# EAGLE library part HMC1053 (library paparazzi)
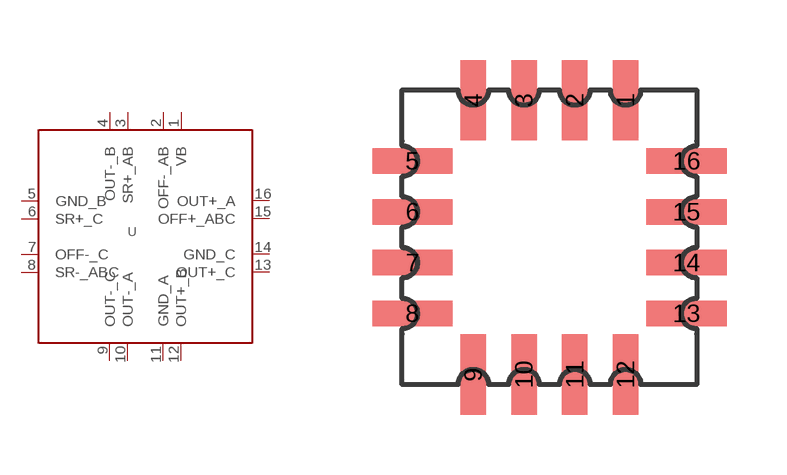
[diagram p20: symbol with the pads of LCC16; footprint LCC16]

Designator prefix -

## HMC1053  [LCC16]
1  VB
2  OFF-_AB
3  SR+_AB
4  OUT-_B
5  GND_B
6  SR+_C
7  OFF-_C
8  SR-_ABC
9  OUT-_C
10  OUT-_A
11  GND_A
12  OUT+_B
13  OUT+_C
14  GND_C
15  OFF+_ABC
16  OUT+_A

## Footprint LCC16 (pad centres in mm)
16 pins LCC
smd 0.635 x 2.007: 1 1.905,3.429; 2 0.635,3.429; 3 -0.635,3.429; 4 -1.905,3.429; 9 -1.905,-3.429; 10 -0.635,-3.429; 11 0.635,-3.429; 12 1.905,-3.429
smd 2.007 x 0.635: 5 -3.429,1.905; 6 -3.429,0.635; 7 -3.429,-0.635; 8 -3.429,-1.905; 13 3.429,-1.905; 14 3.429,-0.635; 15 3.429,0.635; 16 3.429,1.905